# Altium footprint library footprint.PcbLib: 34 footprints (part 3 of 3)
Each footprint in its own frame and in the unit in brackets; x right, y up, seen from the top. Pads: shape width x height; smd on the part's side, far side on the other; paste and mask are expansions set on the pad; w line width, h text height; cw(c..) or ccw(c..) is an arc to the next point about the centre after c.
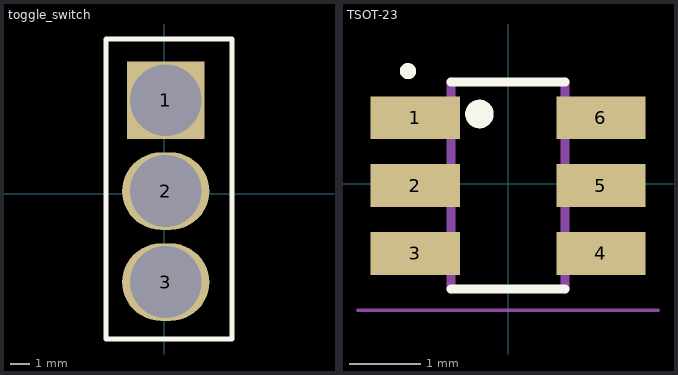
[diagram p2: the footprints below, top view; thin cyan lines are the x and y axes]

## toggle_switch [mm]
pads (3):
  rect 4x4 hole 3.708: 1(0.08,4.84)
  oval 4.5x4 hole 3.708: 2(0.08,0.14) 3(0.08,-4.56)
Top Overlay:
  lines w0.254: -3,-7.5 -3,8 3.5,8 3.5,-7.5 -3,-7.5

## TSOT-23 [mm] "Aluminum Electrolytic Capacitor, Body 8,30x8,30x0,30mm, IPC Low Density"
height 0.3
pads (6):
  rect 1.25x0.6 smd paste-25.4 mask-25.4: 1(-1.3,0.925) 2(-1.3,-0.025) 3(-1.3,-0.975) 4(1.3,-0.975) 5(1.3,-0.025) 6(1.3,0.925)
Top Overlay:
  circle w0.127: c-1.402,1.577 r0.05
  circle w0.2: c-0.402,0.977 r0.1
  lines w0.127: -0.802,-1.473 0.798,-1.473 ; -0.802,1.427 0.798,1.427
Top Paste:
  region: -1.827,-0.323 -0.777,-0.323 -0.777,0.277 -1.827,0.277
  region: -1.827,0.627 -0.777,0.627 -0.777,1.227 -1.827,1.227
  region: -1.827,-1.273 -0.777,-1.273 -0.777,-0.673 -1.827,-0.673
  region: 0.773,-0.323 1.823,-0.323 1.823,0.277 0.773,0.277
  region: 0.773,0.627 1.823,0.627 1.823,1.227 0.773,1.227
  region: 0.773,-1.273 1.823,-1.273 1.823,-0.673 0.773,-0.673
Top Solder:
  region: -1.827,-0.323 -0.777,-0.323 -0.777,0.277 -1.827,0.277
  region: -1.827,0.627 -0.777,0.627 -0.777,1.227 -1.827,1.227
  region: -1.827,-1.273 -0.777,-1.273 -0.777,-0.673 -1.827,-0.673
  region: 0.773,-0.323 1.823,-0.323 1.823,0.277 0.773,0.277
  region: 0.773,0.627 1.823,0.627 1.823,1.227 0.773,1.227
  region: 0.773,-1.273 1.823,-1.273 1.823,-0.673 0.773,-0.673
Mechanical 1:
  lines w0.05: -2.102,-1.773 2.098,-1.773
Mechanical 13:
  lines w0.127: -0.802,-1.473 -0.802,1.427 ; 0.798,-1.473 0.798,1.427